# EAGLE library part 28FLZ-SM1 (library con-jst2)
CONNECTOR
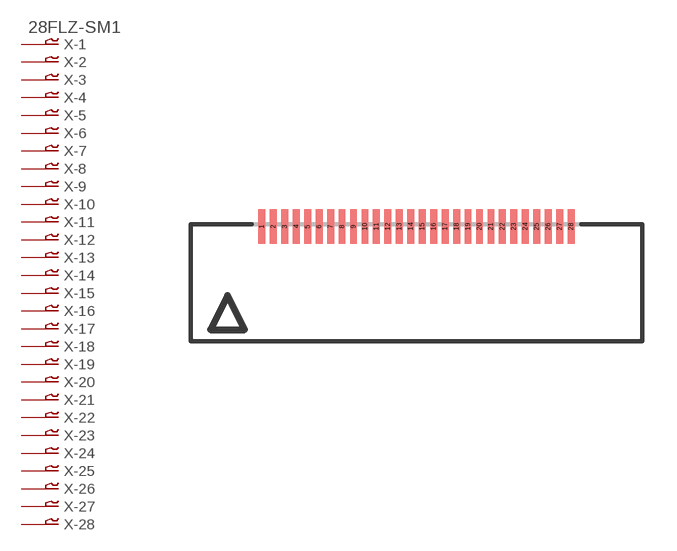
[diagram p21: symbol with the pads of 28FLZ-SM; footprint 28FLZ-SM]

Designator prefix X; gates -1=P-VN -2=P-N -3=P-N -4=P-N -5=P-N -6=P-N -7=P-N -8=P-N -9=P-N -10=P-N -11=P-N -12=P-N -13=P-N -14=P-N -15=P-N -16=P-N -17=P-N -18=P-N -19=P-N -20=P-N -21=P-N -22=P-N -23=P-N -24=P-N -25=P-N -26=P-N -27=P-N -28=P-N

## 28FLZ-SM1  [28FLZ-SM]
1  -1:1  pas
2  -2:1  pas
3  -3:1  pas
4  -4:1  pas
5  -5:1  pas
6  -6:1  pas
7  -7:1  pas
8  -8:1  pas
9  -9:1  pas
10  -10:1  pas
11  -11:1  pas
12  -12:1  pas
13  -13:1  pas
14  -14:1  pas
15  -15:1  pas
16  -16:1  pas
17  -17:1  pas
18  -18:1  pas
19  -19:1  pas
20  -20:1  pas
21  -21:1  pas
22  -22:1  pas
23  -23:1  pas
24  -24:1  pas
25  -25:1  pas
26  -26:1  pas
27  -27:1  pas
28  -28:1  pas

## Footprint 28FLZ-SM (pad centres in mm)
CONNECTOR
smd 0.3 x 1.5: 1 -6.75,2.5; 2 -6.25,2.5; 3 -5.75,2.5; 4 -5.25,2.5; 5 -4.75,2.5; 6 -4.25,2.5; 7 -3.75,2.5; 8 -3.25,2.5; 9 -2.75,2.5; 10 -2.25,2.5; 11 -1.75,2.5; 12 -1.25,2.5; 13 -0.75,2.5; 14 -0.25,2.5; 15 0.25,2.5; 16 0.75,2.5; 17 1.25,2.5; 18 1.75,2.5; 19 2.25,2.5; 20 2.75,2.5; 21 3.25,2.5; 22 3.75,2.5; 23 4.25,2.5; 24 4.75,2.5; 25 5.25,2.5; 26 5.75,2.5; 27 6.25,2.5; 28 6.75,2.5